# EAGLE library part LPCXPRESSO_LPC1769 (library LPCXpresso_LPC1769)
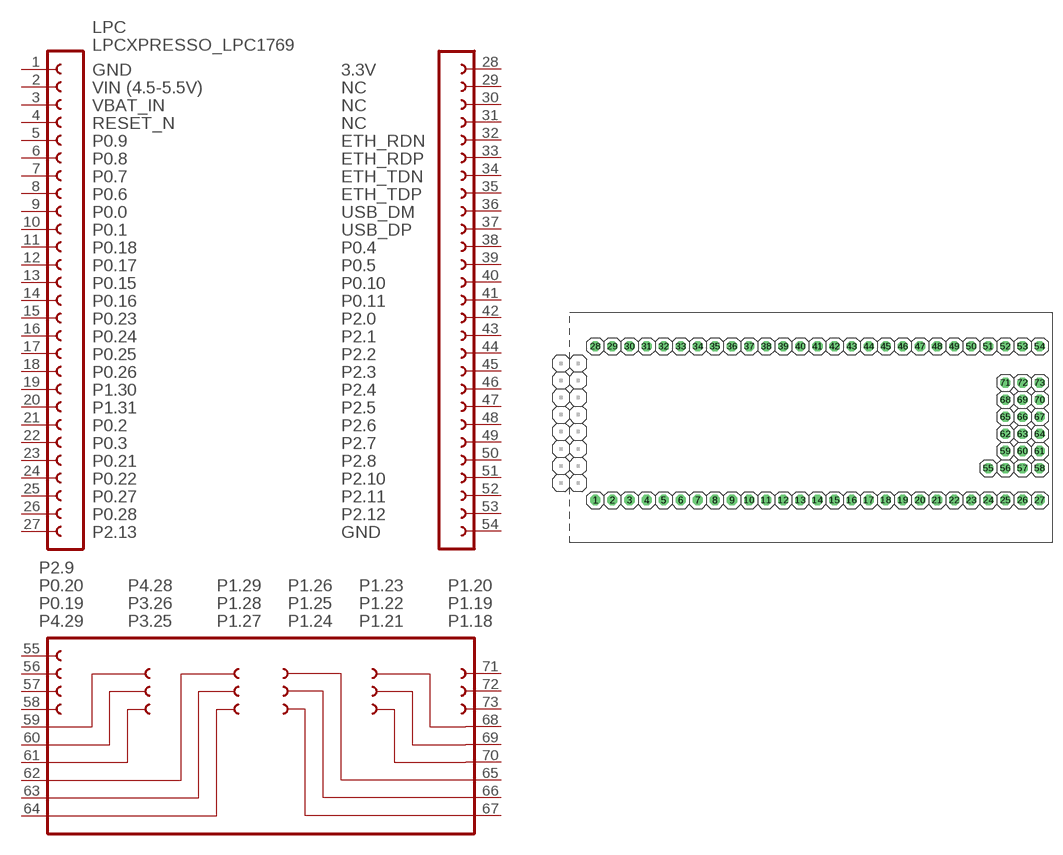
[diagram p0: symbol with the pads of LPCXPRESSO_LPC1769; footprint LPCXPRESSO_LPC1769]

Designator prefix LPC

## LPCXPRESSO_LPC1769  [LPCXPRESSO_LPC1769]
1  1  pas
2  2  pas
3  3  pas
4  4  pas
5  5  pas
6  6  pas
7  7  pas
8  8  pas
9  9  pas
10  10  pas
11  11  pas
12  12  pas
13  13  pas
14  14  pas
15  15  pas
16  16  pas
17  17  pas
18  18  pas
19  19  pas
20  20  pas
21  21  pas
22  22  pas
23  23  pas
24  24  pas
25  25  pas
26  26  pas
27  27  pas
28  28  pas
29  29  pas
30  30  pas
31  31  pas
32  32  pas
33  33  pas
34  34  pas
35  35  pas
36  36  pas
37  37  pas
38  38  pas
39  39  pas
40  40  pas
41  41  pas
42  42  pas
43  43  pas
44  44  pas
45  45  pas
46  46  pas
47  47  pas
48  48  pas
49  49  pas
50  50  pas
51  51  pas
52  52  pas
53  53  pas
54  54  pas
55  55  pas
56  56  pas
57  57  pas
58  58  pas
59  59  pas
60  60  pas
61  61  pas
62  62  pas
63  63  pas
64  64  pas
65  65  pas
66  66  pas
67  67  pas
68  68  pas
69  69  pas
70  70  pas
71  71  pas
72  72  pas
73  73  pas

## Footprint LPCXPRESSO_LPC1769 (pad centres in mm)
drill 1 octagon: 1 -20.955,-10.795; 2 -18.415,-10.795; 3 -15.875,-10.795; 4 -13.335,-10.795; 5 -10.795,-10.795; 6 -8.255,-10.795; 7 -5.715,-10.795; 8 -3.175,-10.795; 9 -0.635,-10.795; 10 1.905,-10.795; 11 4.445,-10.795; 12 6.985,-10.795; 13 9.525,-10.795; 14 12.065,-10.795; 15 14.605,-10.795; 16 17.145,-10.795; 17 19.685,-10.795; 18 22.225,-10.795; 19 24.765,-10.795; 20 27.305,-10.795; 21 29.845,-10.795; 22 32.385,-10.795; 23 34.925,-10.795; 24 37.465,-10.795; 25 40.005,-10.795; 26 42.545,-10.795; 27 45.085,-10.795; 28 -20.955,12.065; 29 -18.415,12.065; 30 -15.875,12.065; 31 -13.335,12.065; 32 -10.795,12.065; 33 -8.255,12.065; 34 -5.715,12.065; 35 -3.175,12.065; 36 -0.635,12.065; 37 1.905,12.065; 38 4.445,12.065; 39 6.985,12.065; 40 9.525,12.065; 41 12.065,12.065; 42 14.605,12.065; 43 17.145,12.065; 44 19.685,12.065; 45 22.225,12.065; 46 24.765,12.065; 47 27.305,12.065; 48 29.845,12.065; 49 32.385,12.065; 50 34.925,12.065; 51 37.465,12.065; 52 40.005,12.065; 53 42.545,12.065; 54 45.085,12.065; 55 37.465,-6.045; 56 40.005,-6.045; 57 42.545,-6.045; 58 45.085,-6.045; 59 40.005,-3.505; 60 42.545,-3.505; 61 45.085,-3.505; 62 40.005,-0.965; 63 42.545,-0.965; 64 45.085,-0.965; 65 40.005,1.575; 66 42.545,1.575; 67 45.085,1.575; 68 40.005,4.115; 69 42.545,4.115; 70 45.085,4.115; 71 40.005,6.655; 72 42.545,6.655; 73 45.085,6.655